# EAGLE library part M74HC597B1R (library ST Microelctronics_By_element14_Batch_1)
8-BIT Latch/Shift Register
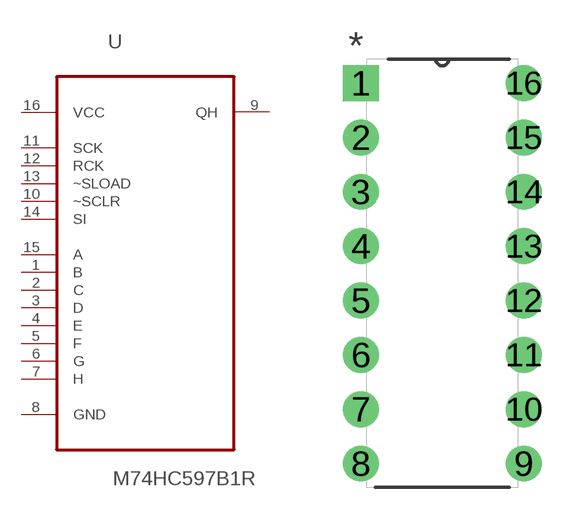
[diagram p251: symbol with the pads of DIP254P762X510-16; footprint DIP254P762X510-16]

Designator prefix U

## M74HC597B1R (MPN: M74HC597B1R; OC_FARNELL: 1467731; OC_NEWARK: 89K0931; PACKAGE: PDIP-16; SUPPLIER: STMICROELECTRONICS)  [DIP254P762X510-16]
1  B  in
2  C  in
3  D  in
4  E  in
5  F  in
6  G  in
7  H  in
8  GND  pas
9  QH  out
10  ~SCLR  in
11  SCK  in
12  RCK  in
13  ~SLOAD  in
14  SI  in
15  A  in
16  VCC  pwr

## Footprint DIP254P762X510-16 (pad centres in mm)
drill 1.118 square: 1 -7.62,17.78
drill 1.118: 2 -7.62,15.24; 3 -7.62,12.7; 4 -7.62,10.16; 5 -7.62,7.62; 6 -7.62,5.08; 7 -7.62,2.54; 8 -7.62,0; 9 0,0; 10 0,2.54; 11 0,5.08; 12 0,7.62; 13 0,10.16; 14 0,12.7; 15 0,15.24; 16 0,17.78